# Altium footprint library SOD_SOT_SMx.PcbLib: 30 footprints (part 2 of 2)
Each footprint in its own frame and in the unit in brackets; x right, y up, seen from the top. Pads: shape width x height; smd on the part's side, far side on the other; paste and mask are expansions set on the pad; w line width, h text height; cw(c..) or ccw(c..) is an arc to the next point about the centre after c.
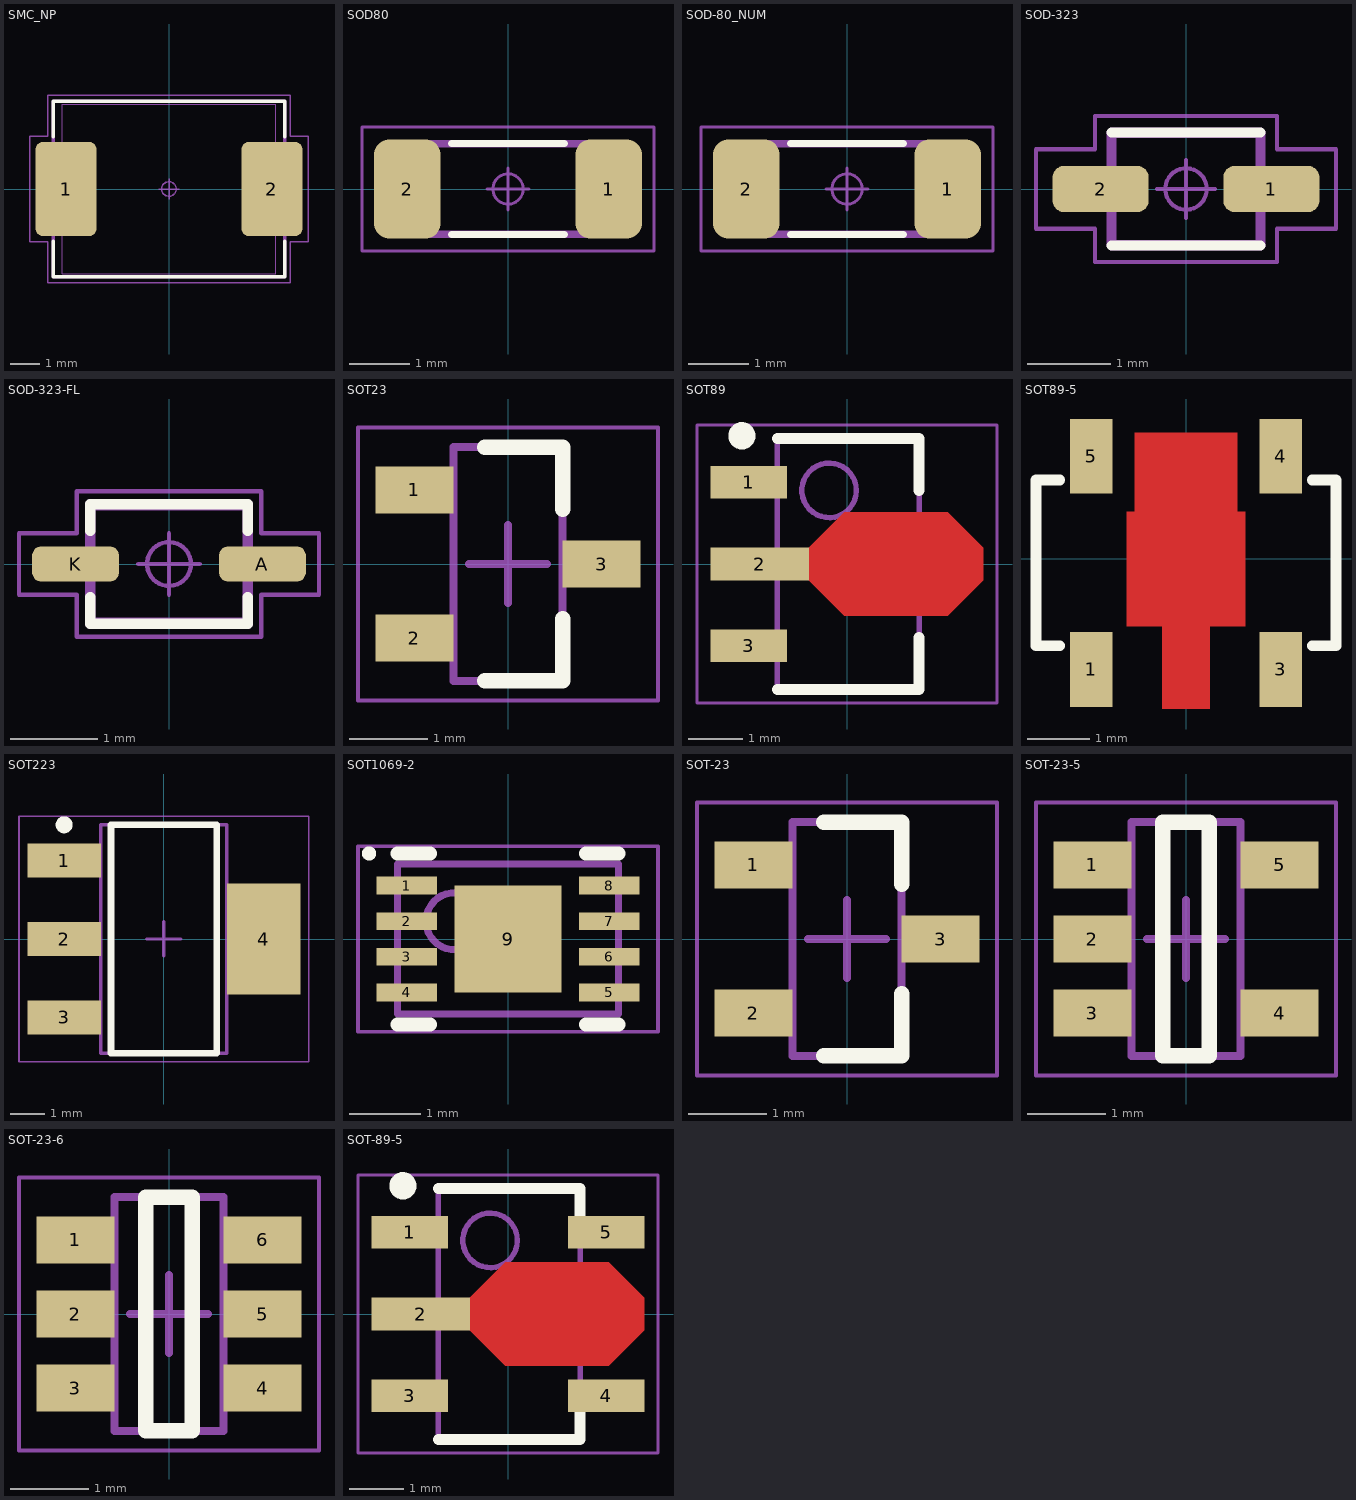
[diagram p1: the footprints below, top view; thin cyan lines are the x and y axes]

## SMC_NP [mm] "Diode, Non-Polarized, Molded Body; 7.30 mm L X 5.80 mm W X 2.50 mm H body"
height 2.5
pads (2):
  rrect24% 2.09x3.22 smd: 1(-3.515,0) 2(3.515,0)
Top Overlay:
  lines w0.12: -3.95,-1.79 -3.95,-3 3.95,-3 3.95,-1.79 ; -3.95,1.79 -3.95,3 3.95,3 3.95,1.79
Mechanical 11:
  lines w0.12: -3.95,-3 3.95,-3 3.95,3 -3.95,3 -3.95,-3
Mechanical 12:
  lines w0.025: -3.95,-1.5 -3.95,1.5 -2.75,1.5 -2.75,-1.5 -3.95,-1.5 ; -3.65,-2.9 3.65,-2.9 3.65,2.9 -3.65,2.9 -3.65,-2.9 ; 2.75,-1.5 3.95,-1.5 3.95,1.5 2.75,1.5 2.75,-1.5
Mechanical 15:
  circle w0.05: c0,0 r0.25
  lines w0.05: -0.35,0 0.35,0 ; 0,-0.35 0,0.35 ; -4.76,-1.81 -4.15,-1.81 -4.15,-3.2 4.15,-3.2 4.15,-1.81 4.76,-1.81 4.76,1.81 4.15,1.81 4.15,3.2 -4.15,3.2 -4.15,1.81 -4.76,1.81 -4.76,-1.81
Mechanical 16:
  text ".Designator" at 0,0 h1.2
3D body "DIONM790X580X250L120X300.STEP": height 2.5, standoff 0, extent -3.95,-2.9 3.95,2.9

## SOD80 [mm] "Diode, Metal Electrode Leadless Face (MELF); 3.45 mm L X 1.40 mm Dia body"
height 1.5
pads (2):
  rrect45% 1.1x1.63 smd: 1(1.66,0) 2(-1.66,0)
Top Overlay:
  lines w0.12: -0.93,-0.75 0.93,-0.75 ; -0.93,0.75 0.93,0.75
Mechanical 11:
  lines w0.12: -1.8,-0.75 -1.8,0.75 1.8,0.75 1.8,-0.75 -1.8,-0.75
Mechanical 12:
  lines w0.025: -1.725,-0.7 -1.325,-0.7 -1.325,0.7 -1.725,0.7 ; -1.725,-0.7 -1.725,0.7 ; -1.725,-0.7 -1.725,0.7 ; -1.725,-0.7 1.725,-0.7 ; -1.725,0.7 1.725,0.7 ; 1.725,-0.7 1.725,0.7 ; 1.725,-0.7 1.325,-0.7 1.325,0.7 1.725,0.7 ; 1.725,-0.7 1.725,0.7
Mechanical 15:
  circle w0.05: c0,0 r0.25
  lines w0.05: -0.35,0 0.35,0 ; 0,-0.35 0,0.35 ; -2.41,-1.02 -2.41,1.02 2.41,1.02 2.41,-1.02 -2.41,-1.02
3D body "DIOMELF345X140L40.STEP": height 1.4, standoff 0, extent -1.725,-0.7 1.725,0.7

## SOD-80_NUM [mm]
pads (2):
  rrect45% 1.1x1.63 smd: 1(1.66,0) 2(-1.66,0)
Top Overlay:
  lines w0.12: -0.93,-0.75 0.93,-0.75 ; -0.93,0.75 0.93,0.75
Mechanical 11:
  lines w0.12: -1.8,-0.75 -1.8,0.75 1.8,0.75 1.8,-0.75 -1.8,-0.75
Mechanical 12:
  lines w0.025: -1.725,-0.7 -1.325,-0.7 -1.325,0.7 -1.725,0.7 ; -1.725,-0.7 -1.725,0.7 ; -1.725,-0.7 -1.725,0.7 ; -1.725,-0.7 1.725,-0.7 ; -1.725,0.7 1.725,0.7 ; 1.725,-0.7 1.725,0.7 ; 1.725,-0.7 1.325,-0.7 1.325,0.7 1.725,0.7 ; 1.725,-0.7 1.725,0.7
Mechanical 15:
  circle w0.05: c0,0 r0.25
  lines w0.05: -0.35,0 0.35,0 ; 0,-0.35 0,0.35 ; -2.41,-1.02 -2.41,1.02 2.41,1.02 2.41,-1.02 -2.41,-1.02
3D body "DIOMELF345X140L40.STEP": height 1.4, standoff 0, extent -1.725,-0.7 1.725,0.7

## SOD-323 [mm] "Diode, Small Outline Diode (SOD); 1.70 mm L X 1.25 mm W X 1.10 mm H body"
height 1.1
pads (2):
  rrect50% 1.16x0.56 smd: 1(1.03,0) 2(-1.03,0)
Top Overlay:
  lines w0.12: -0.9,-0.68 0.9,-0.68 ; -0.9,0.68 0.9,0.68
Mechanical 11:
  lines w0.12: -0.9,-0.68 0.9,-0.68 0.9,0.68 -0.9,0.68 -0.9,-0.68
Mechanical 12:
  lines w0.025: -1.25,-0.162 -1.25,0.162 -0.95,0.162 -0.95,-0.162 -1.25,-0.162 ; -0.85,-0.625 0.85,-0.625 0.85,0.625 -0.85,0.625 -0.85,-0.625 ; 0.95,-0.162 1.25,-0.162 1.25,0.162 0.95,0.162 0.95,-0.162
Mechanical 15:
  circle w0.05: c0,0 r0.25
  lines w0.05: -0.35,0 0.35,0 ; 0,-0.35 0,0.35 ; -1.81,-0.48 -1.1,-0.48 -1.1,-0.88 1.1,-0.88 1.1,-0.48 1.81,-0.48 1.81,0.48 1.1,0.48 1.1,0.88 -1.1,0.88 -1.1,0.48 -1.81,0.48 -1.81,-0.48
3D body "SOD250X125X110L30X32.STEP": height 1.1, standoff 0, extent -1.25,-0.625 1.25,0.625

## SOD-323-FL [mm] "Diode, Small Outline Diode Flat Lead (SODFL); 1.70 mm L X 1.25 mm W X 0.90 mm H body"
height 0.9
pads (2):
  rrect50% 0.99x0.4 smd: A(1.065,0) K(-1.065,0)
Top Overlay:
  lines w0.12: -0.9,-0.38 -0.9,-0.68 0.9,-0.68 0.9,-0.38 ; -0.9,0.38 -0.9,0.68 0.9,0.68 0.9,0.38
Mechanical 11:
  lines w0.12: -0.9,-0.68 0.9,-0.68 0.9,0.68 -0.9,0.68 -0.9,-0.68
Mechanical 12:
  lines w0.025: -1.25,-0.15 -1.25,0.15 -0.75,0.15 -0.75,-0.15 -1.25,-0.15 ; -0.85,-0.625 0.85,-0.625 0.85,0.625 -0.85,0.625 -0.85,-0.625 ; 0.75,-0.15 1.25,-0.15 1.25,0.15 0.75,0.15 0.75,-0.15
Mechanical 15:
  circle w0.05: c0,0 r0.25
  lines w0.05: -0.35,0 0.35,0 ; 0,-0.35 0,0.35 ; -1.71,-0.35 -1.05,-0.35 -1.05,-0.83 1.05,-0.83 1.05,-0.35 1.71,-0.35 1.71,0.35 1.05,0.35 1.05,0.83 -1.05,0.83 -1.05,0.35 -1.71,0.35 -1.71,-0.35
3D body "SODFL250X125X90L50X30.STEP": height 0.9, standoff 0, extent -1.25,-0.625 1.25,0.625

## SOT23 [mm] "SOT23, 3-Leads, Body 2,90x2,45mm, Pitch 0,95mm, IPC Medium Density"
height 1.1
pads (3):
  rect 1x0.6 smd: 1(-1.2,0.95) 2(-1.2,-0.95) 3(1.2,0)
Top Overlay:
  lines w0.2: -0.3,-1.5 0.7,-1.5 0.7,-0.7 ; -0.3,1.5 0.7,1.5 0.7,0.7
Mechanical 13:
  lines w0.1: -0.7,-1.5 0.7,-1.5 0.7,1.5 -0.7,1.5 -0.7,-1.5
Mechanical 15:
  lines w0.05: -1.925,-1.75 1.925,-1.75 1.925,1.75 -1.925,1.75 -1.925,-1.75
  lines w0.1: -0.5,0 0.5,0 ; 0,-0.5 0,0.5
3D body "SOT-23.step": height 1.2, standoff 0, extent -1.25,-1.5 1.25,1.5

## SOT89 [mm] "SOT89, 3-Leads, Body 4,50x2,45mm, Pitch 1,50mm, Lead Span 4,1mm, IPC Medium Density"
height 1.6
pads (3):
  rect 1.4x0.6 smd: 1(-1.8,1.5) 3(-1.8,-1.5)
  rect 1.8x0.6 smd: 2(-1.6,0)
Top Layer:
  region: -0.7,0.3 -0.05,0.95 1.85,0.95 2.5,0.3 2.5,-0.3 1.85,-0.95 -0.05,-0.95 -0.7,-0.3
Top Overlay:
  circle w0.25: c-1.927,2.35 r0.125
  lines w0.2: -1.278,-2.3 1.322,-2.3 1.322,-1.35 ; -1.278,2.3 1.322,2.3 1.322,1.35
Mechanical 13:
  circle w0.1: c-0.327,1.35 r0.5
  lines w0.1: -1.278,-2.3 1.322,-2.3 1.322,2.3 -1.278,2.3 -1.278,-2.3
Mechanical 15:
  lines w0.05: -2.75,-2.55 2.75,-2.55 2.75,2.55 -2.75,2.55 -2.75,-2.55
  lines w0.1: -0.477,0 0.523,0 ; 0.022,-0.5 0.022,0.5
3D body "SOT-89-3.step": height 1.52, standoff 0, extent -2,-2.25 2,2.25

## SOT89-5 [mil]
pads (5):
  rect 26.77x47.24 smd: 1(-60,-70) 3(60,-70) 4(60,65) 5(-60,65)
  round 0 smd paste-1000 mask-1000: 2(0,15)
Top Layer:
  region: -37.5,-42.5 -15,-42.5 -15,-95 15,-95 15,-42.5 37.5,-42.5 37.5,30 32.5,30 32.5,80 -32.5,80 -32.5,30 -37.5,30
Top Overlay:
  lines w6.69: -80,-55 -95,-55 -95,50 -80,50 ; 80,-55 95,-55 95,50 80,50
3D body "SOT89-5.step": height 60.63, standoff 0, extent -88.58,-88.58 88.58,88.59

## SOT223 [mm] "SOT223, 4-Leads, Body 6,50x7,00mm (avg), Pitch 2,30mm, IPC Medium Density"
height 1.8
pads (4):
  rect 2.15x1 smd: 1(-2.925,2.3) 2(-2.925,0) 3(-2.925,-2.3)
  rect 2.15x3.25 smd: 4(2.925,0)
Top Overlay:
  circle w0.25: c-2.925,3.35 r0.125
  lines w0.2: -1.55,-3.35 1.55,-3.35 1.55,3.35 -1.55,3.35 -1.55,-3.35
Mechanical 13:
  lines w0.1: -1.85,-3.35 1.85,-3.35 1.85,3.35 -1.85,3.35 -1.85,-3.35
Mechanical 15:
  lines w0.05: -4.25,-3.6 4.25,-3.6 4.25,3.6 -4.25,3.6 -4.25,-3.6
  lines w0.1: -0.5,0 0.5,0 ; 0,-0.5 0,0.5
3D body "SOT-223.step": height 1.7, standoff 0, extent -3.5,-3.25 3.5,3.25

## SOT1069-2 [mm] "8-lead DFN 2*3mm"
height 0.8
pads (9):
  rect 0.85x0.25 smd: 1(-1.42,0.75) 2(-1.42,0.25) 3(-1.42,-0.25) 4(-1.42,-0.75) 5(1.42,-0.75) 6(1.42,-0.25) 7(1.42,0.25) 8(1.42,0.75)
  rect 1.5x1.5 smd: 9(0,0)
Top Overlay:
  circle w0.1: c-1.95,1.2 r0.05
  lines w0.2: -1.55,-1.2 -1.095,-1.2 ; -1.55,1.2 -1.095,1.2 ; 1.095,-1.2 1.55,-1.2 ; 1.095,1.2 1.55,1.2
Mechanical 13:
  circle w0.1: c-0.75,0.25 r0.4
  lines w0.1: -1.55,-1.05 1.55,-1.05 1.55,1.05 -1.55,1.05 -1.55,-1.05
Mechanical 15:
  lines w0.05: -2.105,-1.3 2.105,-1.3 2.105,1.3 -2.105,1.3 -2.105,-1.3
  lines w0.1: -0.5,0 0.5,0 ; 0,-0.5 0,0.5
3D body: height 0.8, standoff 0, extent -1.55,-1.05 1.55,1.05

## SOT-23 [mm]
pads (3):
  rect 1x0.6 smd: 1(-1.2,0.95) 2(-1.2,-0.95) 3(1.2,0)
Top Overlay:
  lines w0.2: -0.3,-1.5 0.7,-1.5 0.7,-0.7 ; -0.3,1.5 0.7,1.5 0.7,0.7
Mechanical 13:
  lines w0.1: -0.7,-1.5 -0.7,1.5 0.7,1.5 0.7,-1.5 -0.7,-1.5
Mechanical 15:
  lines w0.05: -1.925,-1.75 -1.925,1.75 1.925,1.75 1.925,-1.75 -1.925,-1.75
  lines w0.1: -0.5,0 0.5,0 ; 0,-0.5 0,0.5
3D body "SOT-23.step": height 1.2, standoff 0, extent -1.25,-1.5 1.25,1.5

## SOT-23-5 [mm] "SOT23, 5-Leads, Body 2,90x2,45mm, Pitch 0,95mm, IPC Medium Density"
height 1.1
pads (5):
  rect 1x0.6 smd: 1(-1.2,0.95) 2(-1.2,0) 3(-1.2,-0.95) 4(1.2,-0.95) 5(1.2,0.95)
Top Overlay:
  lines w0.2: -0.3,-1.5 0.3,-1.5 0.3,1.5 -0.3,1.5 -0.3,-1.5
Mechanical 13:
  lines w0.1: -0.7,-1.5 -0.7,1.5 0.7,1.5 0.7,-1.5 -0.7,-1.5
Mechanical 15:
  lines w0.05: -1.925,-1.75 -1.925,1.75 1.925,1.75 1.925,-1.75 -1.925,-1.75
  lines w0.1: -0.5,0 0.5,0 ; 0,-0.5 0,0.5
3D body "SOT-23-5.step": height 1.55, standoff 0, extent -1.4,-1.45 1.4,1.45

## SOT-23-6 [mm] "SOT23, 6-Leads, Body 2,90x2,45mm, Pitch 0,95mm, IPC Medium Density"
height 1.1
pads (6):
  rect 1x0.6 smd: 1(-1.2,0.95) 2(-1.2,0) 3(-1.2,-0.95) 4(1.2,-0.95) 5(1.2,0) 6(1.2,0.95)
Top Overlay:
  lines w0.2: -0.3,-1.5 0.3,-1.5 0.3,1.5 -0.3,1.5 -0.3,-1.5
Mechanical 13:
  lines w0.1: -0.7,-1.5 -0.7,1.5 0.7,1.5 0.7,-1.5 -0.7,-1.5
Mechanical 15:
  lines w0.05: -1.925,-1.75 -1.925,1.75 1.925,1.75 1.925,-1.75 -1.925,-1.75
  lines w0.1: -0.5,0 0.5,0 ; 0,-0.5 0,0.5
3D body "SOT-23-6.step": height 1.55, standoff 0, extent -1.4,-1.45 1.4,1.45

## SOT-89-5 [mm] "SOT89, 3-Leads, Body 4,50x2,45mm, Pitch 1,50mm, Lead Span 4,1mm, IPC Medium Density"
height 1.6
pads (5):
  rect 1.4x0.6 smd: 1(-1.8,1.5) 3(-1.8,-1.5) 4(1.8,-1.5) 5(1.8,1.5)
  rect 1.8x0.6 smd: 2(-1.6,0)
Top Layer:
  region: -0.7,0.3 -0.05,0.95 1.85,0.95 2.5,0.3 2.5,-0.3 1.85,-0.95 -0.05,-0.95 -0.7,-0.3
Top Overlay:
  circle w0.25: c-1.927,2.35 r0.125
  lines w0.2: -1.278,-2.3 1.322,-2.3 1.322,-1.35 ; -1.278,2.3 1.322,2.3 1.322,1.35
Mechanical 13:
  circle w0.1: c-0.327,1.35 r0.5
  lines w0.1: -1.278,-2.3 1.322,-2.3 1.322,2.3 -1.278,2.3 -1.278,-2.3
Mechanical 15:
  lines w0.05: -2.75,-2.55 2.75,-2.55 2.75,2.55 -2.75,2.55 -2.75,-2.55
  lines w0.1: -0.477,0 0.523,0 ; 0.022,-0.5 0.022,0.5
3D body "SOT89-5.step": height 1.54, standoff 0, extent -2.25,-2.25 2.25,2.25